# Altium footprint library PCB - CONNECTOR - MOLEX - MOLEX 0399200302.PCBLIB: 1 footprints
Each footprint in its own frame and in the unit in brackets; x right, y up, seen from the top. Pads: shape width x height; smd on the part's side, far side on the other; paste and mask are expansions set on the pad; w line width, h text height; cw(c..) or ccw(c..) is an arc to the next point about the centre after c.
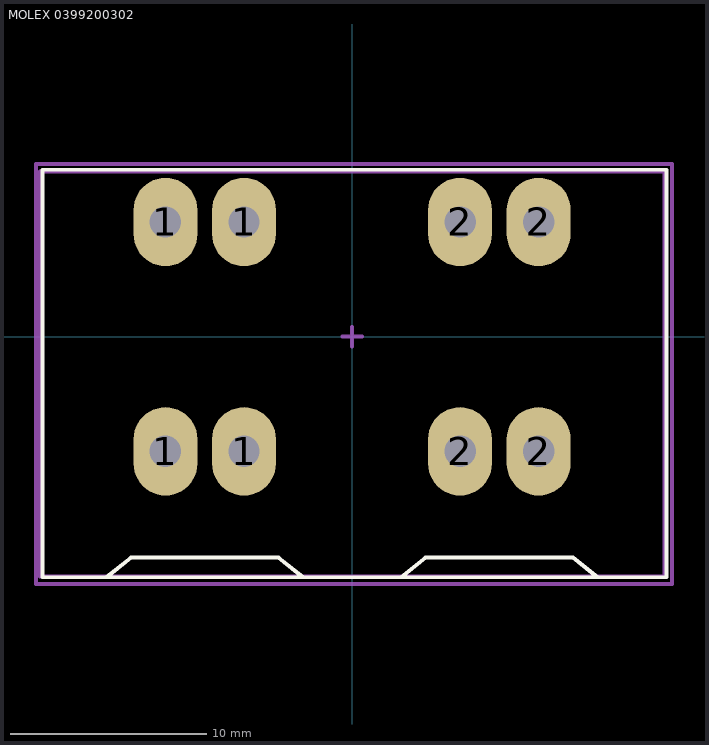
[diagram p0: the footprint, top view; thin cyan lines are the x and y axes]

## MOLEX 0399200302 [mm]
height 35.1
pads (8):
  oval 3.25x4.5 hole 1.6: 1(-9.5,-5.84) 1(-9.5,5.84) 1(-5.5,-5.84) 1(-5.5,5.84) 2(5.5,-5.84) 2(5.5,5.84) 2(9.5,-5.84) 2(9.5,5.84)
Top Overlay:
  lines w0.2: -12.5,-12.25 -11.25,-11.25 -3.75,-11.25 -2.5,-12.25 ; 2.5,-12.25 3.75,-11.25 11.25,-11.25 12.5,-12.25 ; -15.75,-12.25 -15.75,8.5 16,8.5 16,-12.25 -15.75,-12.25
Mechanical 13:
  lines w0.2: -15.9,-12.2 15.9,-12.2 15.9,8.4 -15.9,8.4 -15.9,-12.2
Mechanical 15:
  lines w0.2: -0.5,0 0.5,0 ; 0,-0.5 0,0.5 ; -16.1,-12.6 -16.1,8.8 16.3,8.8 16.3,-12.6 -16.1,-12.6
3D body "Molex - 399200302.step": height 35.05, standoff -6.35, extent -15.875,-12.192 15.875,8.433